# Altium schematic symbol library peggy-optical-board.SchLib: 1 symbol
Pins are listed as number, name and electrical type; pins without a type are passive.

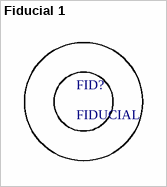
[diagram p0: symbol Fiducial 1]

## Fiducial 1
designator FID?, comment FIDUCIAL  (no BOM)
footprint FID (FIDUCIAL)